# EAGLE library part STM32H723VEH6 (library STM32H723VEH6)
High-performance and DSP with DP-FPU, Arm Cortex-M7 MCU with 512 Kbytes Flash, 564 Kbytes RAM, 550 MHz CPU, L1 cache, external memory interface, subset of peripherals Source: Datasheet <https://www.st.com/resource/en/datasheet/stm32h723zg.pdf>
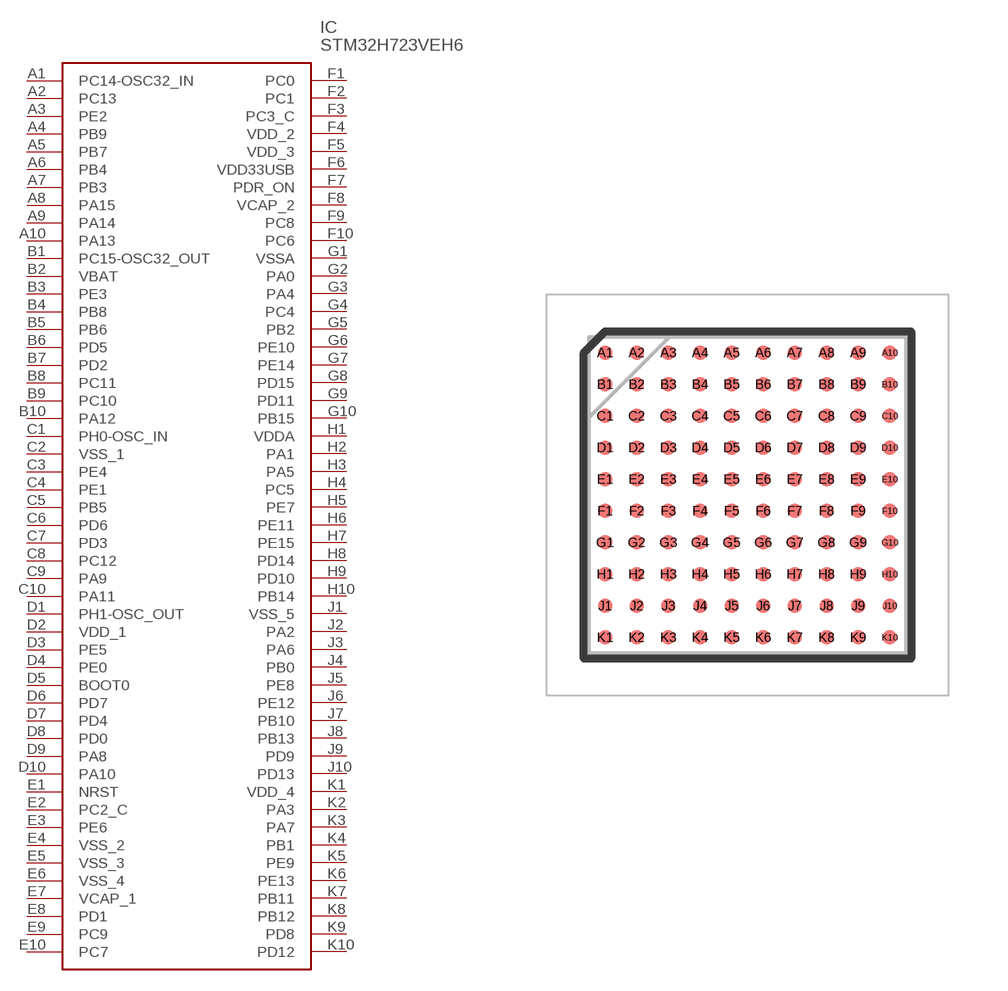
[diagram p0: symbol with the pads of BGA100C80P10X10_800X800X110; footprint BGA100C80P10X10_800X800X110]

Designator prefix IC

## STM32H723VEH6 (Arrow_Part_Number: STM32H723VEH6; Arrow_Price-Stock: https://www.arrow.com/en/products/stm32h723veh6/stmicroelectronics?utm_currency=USD&region=nac; Description: High-performance and DSP with DP-FPU, Arm Cortex-M7 MCU with 512 Kbytes Flash, 564 Kbytes RAM, 550 MHz CPU, L1 cache, external memory interface, subset of peripherals; Height: 1.1mm; Manufacturer_Name: STMicroelectronics; Manufacturer_Part_Number: STM32H723VEH6; Mouser_Part_Number: 511-STM32H723VEH6; Mouser_Price-Stock: https://www.mouser.co.uk/ProductDetail/STMicroelectronics/STM32H723VEH6?qs=sPbYRqrBIVmfnFltjZixRA%3D%3D)  [BGA100C80P10X10_800X800X110]
A1  PC14-OSC32_IN
A2  PC13
A3  PE2
A4  PB9
A5  PB7
A6  PB4
A7  PB3
A8  PA15
A9  PA14
A10  PA13
B1  PC15-OSC32_OUT
B2  VBAT
B3  PE3
B4  PB8
B5  PB6
B6  PD5
B7  PD2
B8  PC11
B9  PC10
B10  PA12
C1  PH0-OSC_IN
C2  VSS_1
C3  PE4
C4  PE1
C5  PB5
C6  PD6
C7  PD3
C8  PC12
C9  PA9
C10  PA11
D1  PH1-OSC_OUT
D2  VDD_1
D3  PE5
D4  PE0
D5  BOOT0
D6  PD7
D7  PD4
D8  PD0
D9  PA8
D10  PA10
E1  NRST
E2  PC2_C
E3  PE6
E4  VSS_2
E5  VSS_3
E6  VSS_4
E7  VCAP_1
E8  PD1
E9  PC9
E10  PC7
F1  PC0
F2  PC1
F3  PC3_C
F4  VDD_2
F5  VDD_3
F6  VDD33USB
F7  PDR_ON
F8  VCAP_2
F9  PC8
F10  PC6
G1  VSSA
G2  PA0
G3  PA4
G4  PC4
G5  PB2
G6  PE10
G7  PE14
G8  PD15
G9  PD11
G10  PB15
H1  VDDA
H2  PA1
H3  PA5
H4  PC5
H5  PE7
H6  PE11
H7  PE15
H8  PD14
H9  PD10
H10  PB14
J1  VSS_5
J2  PA2
J3  PA6
J4  PB0
J5  PE8
J6  PE12
J7  PB10
J8  PB13
J9  PD9
J10  PD13
K1  VDD_4
K2  PA3
K3  PA7
K4  PB1
K5  PE9
K6  PE13
K7  PB11
K8  PB12
K9  PD8
K10  PD12

## Footprint BGA100C80P10X10_800X800X110 (pad centres in mm)
TFBGA 100 8x8x1.2 P 0.8 mm_2022
smd 0.37 x 0.37: A1 -3.6,3.6; A2 -2.8,3.6; A3 -2,3.6; A4 -1.2,3.6; A5 -0.4,3.6; A6 0.4,3.6; A7 1.2,3.6; A8 2,3.6; A9 2.8,3.6; A10 3.6,3.6; B1 -3.6,2.8; B2 -2.8,2.8; B3 -2,2.8; B4 -1.2,2.8; B5 -0.4,2.8; B6 0.4,2.8; B7 1.2,2.8; B8 2,2.8; B9 2.8,2.8; B10 3.6,2.8; C1 -3.6,2; C2 -2.8,2; C3 -2,2; C4 -1.2,2; C5 -0.4,2; C6 0.4,2; C7 1.2,2; C8 2,2; C9 2.8,2; C10 3.6,2; D1 -3.6,1.2; D2 -2.8,1.2; D3 -2,1.2; D4 -1.2,1.2; D5 -0.4,1.2; D6 0.4,1.2; D7 1.2,1.2; D8 2,1.2; D9 2.8,1.2; D10 3.6,1.2; E1 -3.6,0.4; E2 -2.8,0.4; E3 -2,0.4; E4 -1.2,0.4; E5 -0.4,0.4; E6 0.4,0.4; E7 1.2,0.4; E8 2,0.4; E9 2.8,0.4; E10 3.6,0.4; F1 -3.6,-0.4; F2 -2.8,-0.4; F3 -2,-0.4; F4 -1.2,-0.4; F5 -0.4,-0.4; F6 0.4,-0.4; F7 1.2,-0.4; F8 2,-0.4; F9 2.8,-0.4; F10 3.6,-0.4; G1 -3.6,-1.2; G2 -2.8,-1.2; G3 -2,-1.2; G4 -1.2,-1.2; G5 -0.4,-1.2; G6 0.4,-1.2; G7 1.2,-1.2; G8 2,-1.2; G9 2.8,-1.2; G10 3.6,-1.2; H1 -3.6,-2; H2 -2.8,-2; H3 -2,-2; H4 -1.2,-2; H5 -0.4,-2; H6 0.4,-2; H7 1.2,-2; H8 2,-2; H9 2.8,-2; H10 3.6,-2; J1 -3.6,-2.8; J2 -2.8,-2.8; J3 -2,-2.8; J4 -1.2,-2.8; J5 -0.4,-2.8; J6 0.4,-2.8; J7 1.2,-2.8; J8 2,-2.8; J9 2.8,-2.8; J10 3.6,-2.8; K1 -3.6,-3.6; K2 -2.8,-3.6; K3 -2,-3.6; K4 -1.2,-3.6; K5 -0.4,-3.6; K6 0.4,-3.6; K7 1.2,-3.6; K8 2,-3.6; K9 2.8,-3.6; K10 3.6,-3.6